# Altium footprint library INA3221AQRGVRQ1.PcbLib: 1 footprints
Each footprint in its own frame and in the unit in brackets; x right, y up, seen from the top. Pads: shape width x height; smd on the part's side, far side on the other; paste and mask are expansions set on the pad; w line width, h text height; cw(c..) or ccw(c..) is an arc to the next point about the centre after c.
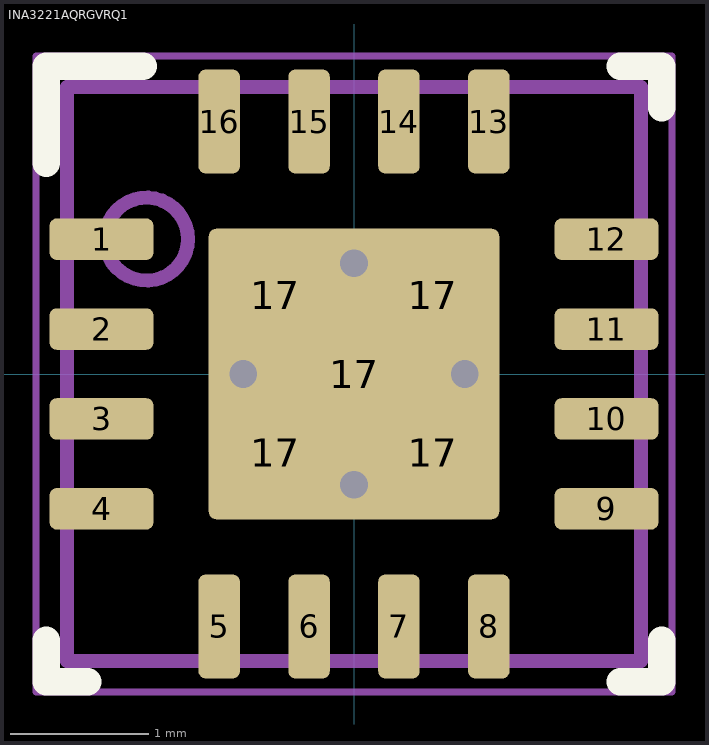
[diagram p0: the footprint, top view; thin cyan lines are the x and y axes]

## INA3221AQRGVRQ1 [mm]
height 1
pads (21):
  rrect33% 0.75x0.3 smd: 1(-1.825,0.975) 2(-1.825,0.325) 3(-1.825,-0.325) 4(-1.825,-0.975) 9(1.825,-0.975) 10(1.825,-0.325) 11(1.825,0.325) 12(1.825,0.975)
  rrect33% 0.3x0.75 smd: 5(-0.975,-1.825) 6(-0.325,-1.825) 7(0.325,-1.825) 8(0.975,-1.825) 13(0.975,1.825) 14(0.325,1.825) 15(-0.325,1.825) 16(-0.975,1.825)
  rrect11% 0.939x0.939 on Top Paste: 17(-0.57,-0.57) 17(-0.57,0.57) 17(0.57,-0.57) 17(0.57,0.57)
  rrect5% 2.1x2.1 smd paste-1.08: 17(0,0)
via 0,0.8 diameter 0.5 hole 0.2
via 0,-0.8 diameter 0.5 hole 0.2
via -0.8,0 diameter 0.5 hole 0.2
via 0.8,0 diameter 0.5 hole 0.2
Top Overlay:
  lines w0.2: -2.225,-1.925 -2.225,-2.225 -1.925,-2.225 ; -2.225,1.525 -2.225,2.225 -1.525,2.225 ; 1.925,-2.225 2.225,-2.225 2.225,-1.925 ; 1.925,2.225 2.225,2.225 2.225,1.925
Mechanical 1:
  text ".Designator" at -1.854,-0.508 h1.02
Mechanical 13:
  circle w0.1: c-1.5,0.975 r0.3
  lines w0.1: -2.075,-2.075 -2.075,2.075 2.075,2.075 2.075,-2.075 -2.075,-2.075
Mechanical 15:
  lines w0.05: -2.3,-2.3 2.3,-2.3 2.3,2.3 -2.3,2.3 -2.3,-2.3
  lines w0.1: -0.5,0 0.5,0 ; 0,-0.5 0,0.5
3D body: height 1.01, standoff 0.5, extent -1.799,0.676 -1.201,1.274
3D body: height 1, standoff 0, extent -2.075,-2.075 2.075,2.075